# Altium schematic symbol library Motherboard V2.0.SchLib: 15 symbols
Pins are listed as number, name and electrical type; pins without a type are passive.

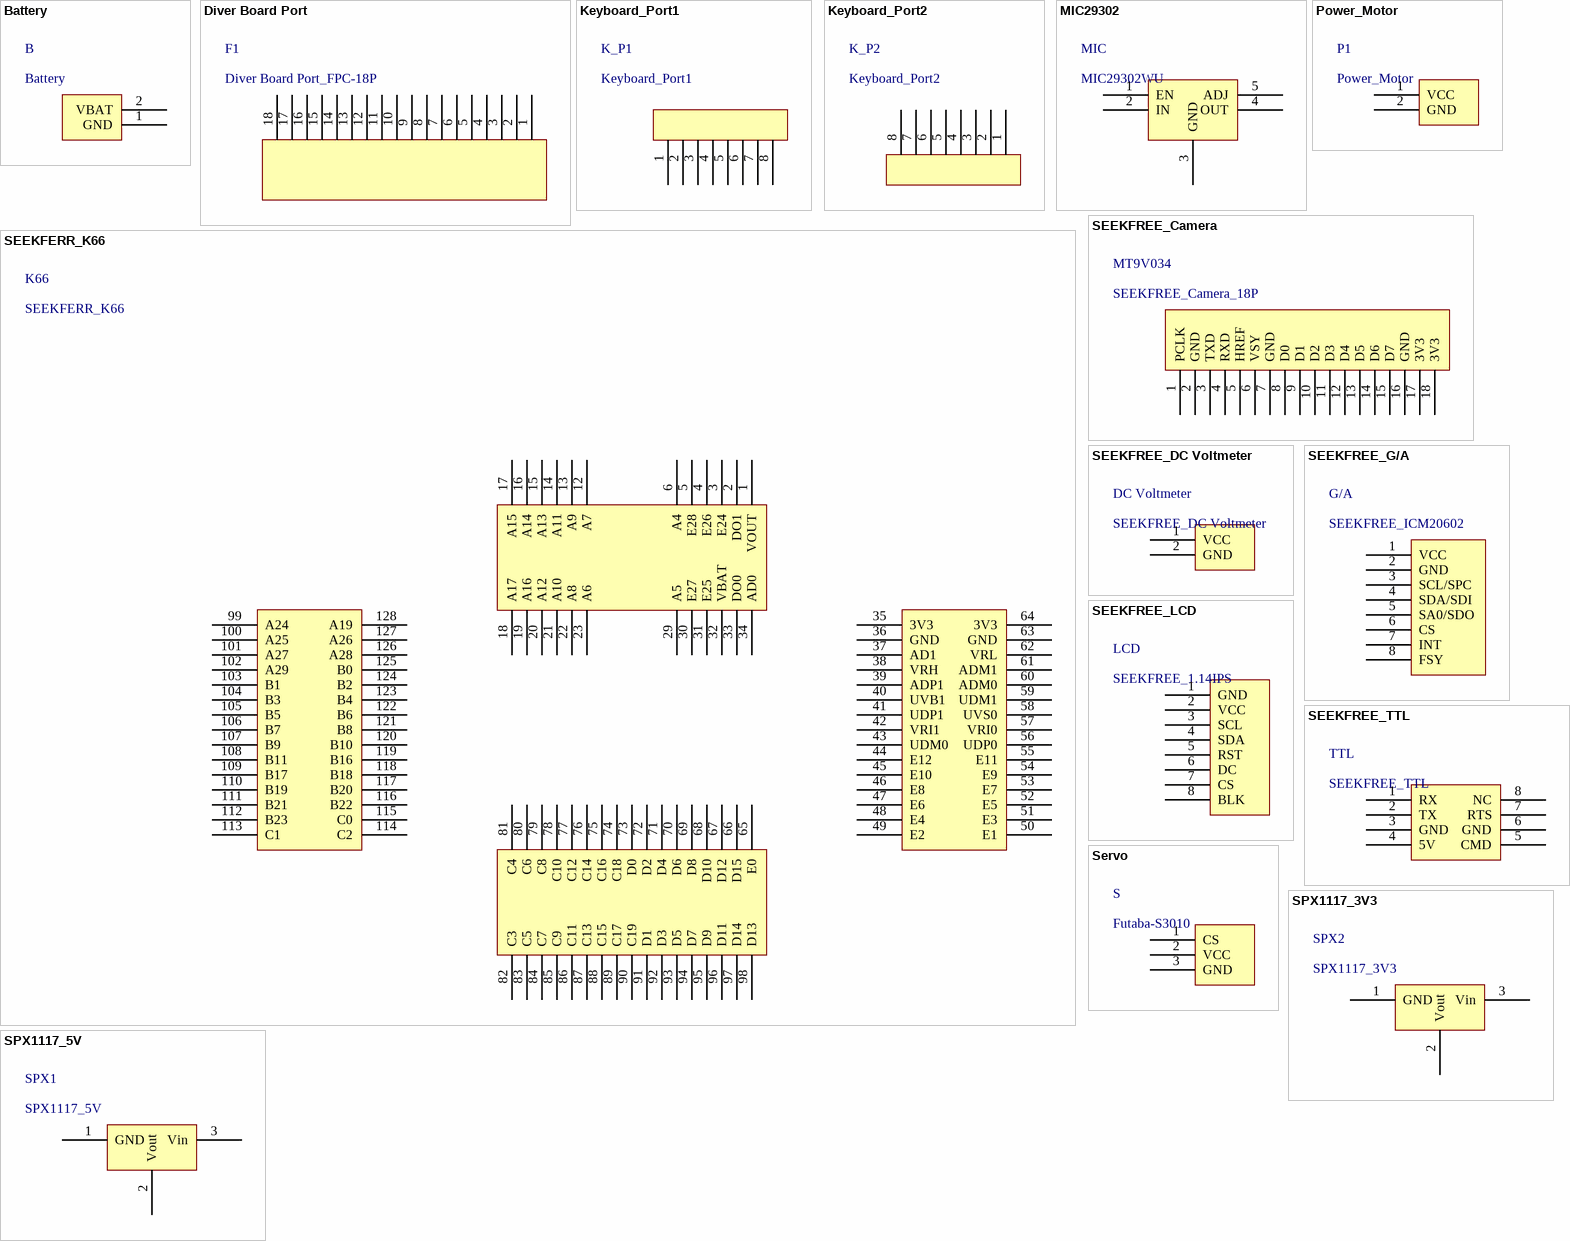
[diagram p0: symbols Battery to SPX1117_5V]

## Battery
designator B
pins: 1 GND, 2 VBAT

## Diver Board Port
designator F1, comment Diver Board Port_FPC-18P
pins: 1, 2, 3, 4, 5, 6, 7, 8, 9, 10, 11, 12, 13, 14, 15, 16, 17, 18

## Keyboard_Port1
designator K_P1
pins: 1, 2, 3, 4, 5, 6, 7, 8

## Keyboard_Port2
designator K_P2
pins: 1, 2, 3, 4, 5, 6, 7, 8

## MIC29302
designator MIC, comment MIC29302WU
pins: 1 EN, 2 IN, 3 GND, 4 OUT, 5 ADJ

## Power_Motor
designator P1
pins: 1 VCC, 2 GND

## SEEKFERR_K66
designator K66
pins: 1 VOUT, 2 DO1, 3 E24, 4 E26, 5 E28, 6 A4, 12 A7, 13 A9, 14 A11, 15 A13, 16 A14, 17 A15, 18 A17, 19 A16, 20 A12, 21 A10, 22 A8, 23 A6, 29 A5, 30 E27, 31 E25, 32 VBAT, 33 DO0, 34 AD0, 35 3V3, 36 GND, 37 AD1, 38 VRH, 39 ADP1, 40 UVB1, 41 UDP1, 42 VRI1, 43 UDM0, 44 E12, 45 E10, 46 E8, 47 E6, 48 E4, 49 E2, 50 E1, 51 E3, 52 E5, 53 E7, 54 E9, 55 E11, 56 UDP0, 57 VRI0, 58 UVS0, 59 UDM1, 60 ADM0, 61 ADM1, 62 VRL, 63 GND, 64 3V3, 65 E0, 66 D15, 67 D12, 68 D10, 69 D8, 70 D6, 71 D4, 72 D2, 73 D0, 74 C18, 75 C16, 76 C14, 77 C12, 78 C10, 79 C8, 80 C6, 81 C4, 82 C3, 83 C5, 84 C7, 85 C9, 86 C11, 87 C13, 88 C15, 89 C17, 90 C19, 91 D1, 92 D3, 93 D5, 94 D7, 95 D9, 96 D11, 97 D14, 98 D13, 99 A24, 100 A25, 101 A27, 102 A29, 103 B1, 104 B3, 105 B5, 106 B7, 107 B9, 108 B11, 109 B17, 110 B19, 111 B21, 112 B23, 113 C1, 114 C2, 115 C0, 116 B22, 117 B20, 118 B18, 119 B16, 120 B10, 121 B8, 122 B6, 123 B4, 124 B2, 125 B0, 126 A28, 127 A26, 128 A19

## SEEKFREE_Camera
designator MT9V034, comment SEEKFREE_Camera_18P
pins: 1 PCLK, 2 GND, 3 TXD, 4 RXD, 5 HREF, 6 VSY, 7 GND, 8 D0, 9 D1, 10 D2, 11 D3, 12 D4, 13 D5, 14 D6, 15 D7, 16 GND, 17 3V3, 18 3V3

## SEEKFREE_DC Voltmeter
designator DC Voltmeter
pins: 1 VCC, 2 GND

## SEEKFREE_G/A
designator G/A, comment SEEKFREE_ICM20602
pins: 1 VCC, 2 GND, 3 SCL/SPC, 4 SDA/SDI, 5 SA0/SDO, 6 CS, 7 INT, 8 FSY

## SEEKFREE_LCD
designator LCD, comment SEEKFREE_1.14IPS
pins: 1 GND, 2 VCC, 3 SCL, 4 SDA, 5 RST, 6 DC, 7 CS, 8 BLK

## SEEKFREE_TTL
designator TTL
pins: 1 RX, 2 TX, 3 GND, 4 5V, 5 CMD, 6 GND, 7 RTS, 8 NC

## Servo
designator S, comment Futaba-S3010
pins: 1 CS, 2 VCC, 3 GND

## SPX1117_3V3
designator SPX2
pins: 1 GND, 2 Vout, 3 Vin

## SPX1117_5V
designator SPX1
pins: 1 GND, 2 Vout, 3 Vin